# EAGLE library part 24AA32AT-I/MC (library Microchip_By_element14_Batch_1)
32K I2C Serial EEPROM
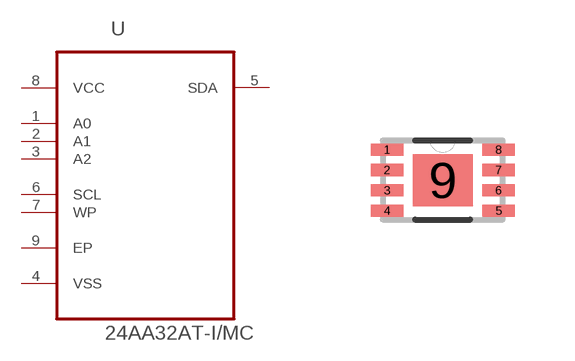
[diagram p13: symbol with the pads of DFN200X300X100-9N; footprint DFN200X300X100-9N]

Designator prefix -

## 24AA32AT-I/MC (MPN: 24AA32AT-I/MC; OC_FARNELL: -; OC_NEWARK: 31K5808; PACKAGE: DFN-8; SUPPLIER: MICROCHIP)  [DFN200X300X100-9N]
1  A0  in
2  A1  in
3  A2  in
4  VSS  pas
5  SDA
6  SCL  in
7  WP  in
8  VCC  pwr
9  EP  pas

## Footprint DFN200X300X100-9N (pad centres in mm)
smd 0.813 x 0.305: 1 -1.397,0.762; 2 -1.397,0.254; 3 -1.397,-0.254; 4 -1.397,-0.762; 5 1.397,-0.762; 6 1.397,-0.254; 7 1.397,0.254; 8 1.397,0.762
smd 1.499 x 1.295: 9 0,0